# EAGLE library part LB1H (library con-hirschmann)
Female RF CONNECTOR with switch, horizontal
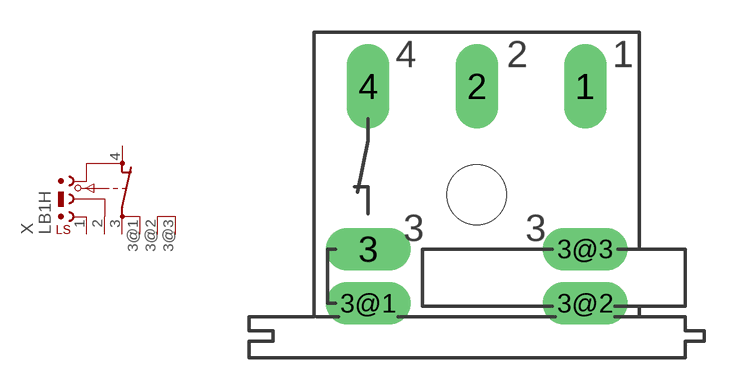
[diagram p4: symbol with the pads of LB1H; footprint LB1H]

Designator prefix X

## LB1H (OC_FARNELL: unknown; OC_NEWARK: unknown)  [LB1H]
1  1  pas
2  2  pas
3  3  pas
3@1  3A  pas
3@2  3B  pas
3@3  3C  pas
4  4  pas

## Footprint LB1H (pad centres in mm)
Female RF CONNECTOR with switch horizontal
drill 1.321 long: 1 5.08,5.08; 2 0,5.08; 3 -5.08,-2.54; 3@1 -5.08,-5.08; 3@2 5.08,-5.08; 3@3 5.08,-2.54; 4 -5.08,5.08
hole 2.794 at 0,0